# EAGLE library part LT3757AEDD#PBF (library LT3757AEDD#PBF)
Switching Controllers Boost, Fly, SEPIC & Inv Cntr Source: Datasheet <https://www.analog.com/media/en/technical-documentation/data-sheets/lt3757-3757a.pdf>
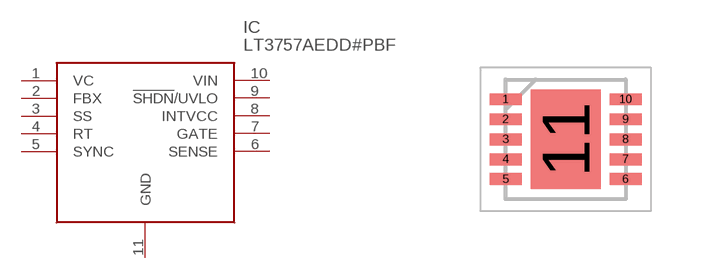
[diagram p0: symbol with the pads of SON50P300X300X80-11N; footprint SON50P300X300X80-11N]

Designator prefix IC

## LT3757AEDD#PBF (Description: Switching Controllers Boost, Fly, SEPIC & Inv Cntr; Height: 0.8mm; Manufacturer_Name: Analog Devices; Manufacturer_Part_Number: LT3757AEDD#PBF; Mouser_Part_Number: 584-LT3757AEDD#PBF; Mouser_Price-Stock: https://www.mouser.co.uk/ProductDetail/Analog-Devices/LT3757AEDDPBF?qs=hVkxg5c3xu8M5j4WPAqQQA%3D%3D)  [SON50P300X300X80-11N]
1  VC
2  FBX
3  SS
4  RT
5  SYNC
6  SENSE
7  GATE
8  INTVCC
9  !SHDN!/UVLO
10  VIN
11  GND

## Footprint SON50P300X300X80-11N (pad centres in mm)
DD 10-Lead Plastic DFN (3mm × 3mm)
smd 0.8 x 0.3: 1 -1.5,1; 2 -1.5,0.5; 3 -1.5,0; 4 -1.5,-0.5; 5 -1.5,-1; 6 1.5,-1; 7 1.5,-0.5; 8 1.5,0; 9 1.5,0.5; 10 1.5,1
smd 1.75 x 2.48: 11 0,0